# EAGLE library part M80-5102042 (library connectors)
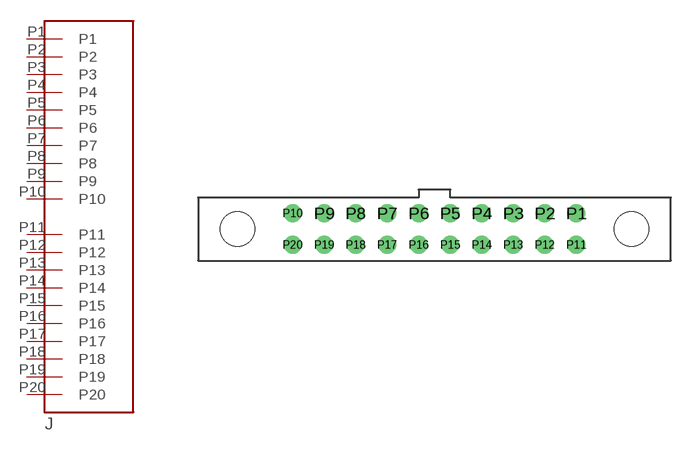
[diagram p1: symbol with the pads of M80-5102042; footprint M80-5102042]

Designator prefix J

## M80-5102042  [M80-5102042]
P1  P1
P2  P2
P3  P3
P4  P4
P5  P5
P6  P6
P7  P7
P8  P8
P9  P9
P10  P10
P11  P11
P12  P12
P13  P13
P14  P14
P15  P15
P16  P16
P17  P17
P18  P18
P19  P19
P20  P20

## Footprint M80-5102042 (pad centres in mm)
drill 0.65: P1 9,1; P2 7,1; P3 5,1; P4 3,1; P5 1,1; P6 -1,1; P7 -3,1; P8 -5,1; P9 -7,1; P10 -9,1; P11 9,-1; P12 7,-1; P13 5,-1; P14 3,-1; P15 1,-1; P16 -1,-1; P17 -3,-1; P18 -5,-1; P19 -7,-1; P20 -9,-1
hole 2.2 at -12.5,0
hole 2.2 at 12.5,0